# EAGLE library part AD8222_NEW (library moth)
OP AMP AD8222 Dual package instrumentation amplifier
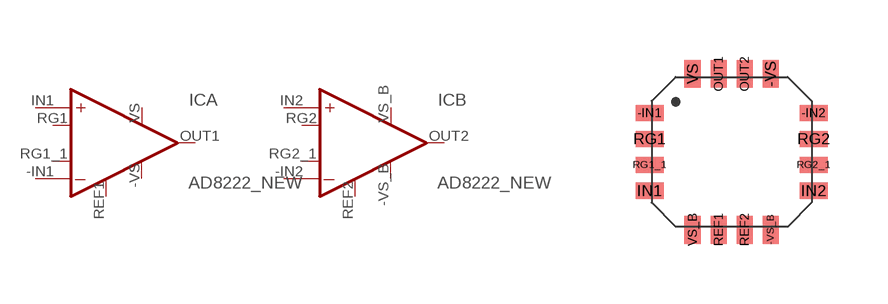
[diagram p4: symbol with the pads of QFN-16; footprint QFN-16]

Designator prefix IC; gates A=OPAMP B=OPAMP

## AD8222_NEW  [QFN-16]
-IN1  A:-IN  in
-IN2  B:-IN  in
-VS  A:V-  pwr
-VS_B  B:V-  pwr
IN1  A:+IN  in
IN2  B:+IN  in
OUT1  A:OUT  in
OUT2  B:OUT  in
REF1  A:REF  in
REF2  B:REF  in
RG1  A:RG1  in
RG1_1  A:RG1_1  in
RG2  B:RG1  in
RG2_1  B:RG1_1  in
VS  A:V+  pwr
VS_B  B:V+  pwr

## Footprint QFN-16 (pad centres in mm)
smd 0.7 x 0.4: -IN1 -2.05,0.975; -IN2 2.05,0.975; IN1 -2.05,-0.975; IN2 2.05,-0.975; RG1 -2.05,0.325; RG1_1 -2.05,-0.325; RG2 2.05,0.325; RG2_1 2.05,-0.325
smd 0.4 x 0.7: -VS 0.975,1.95; -VS_B 0.975,-1.95; OUT1 -0.325,1.95; OUT2 0.325,1.95; REF1 -0.325,-1.95; REF2 0.325,-1.95; VS -0.975,1.95; VS_B -0.975,-1.95